# Altium schematic symbol library Gateway.SCHLIB: 44 symbols
Pins are listed as number, name and electrical type; pins without a type are passive.

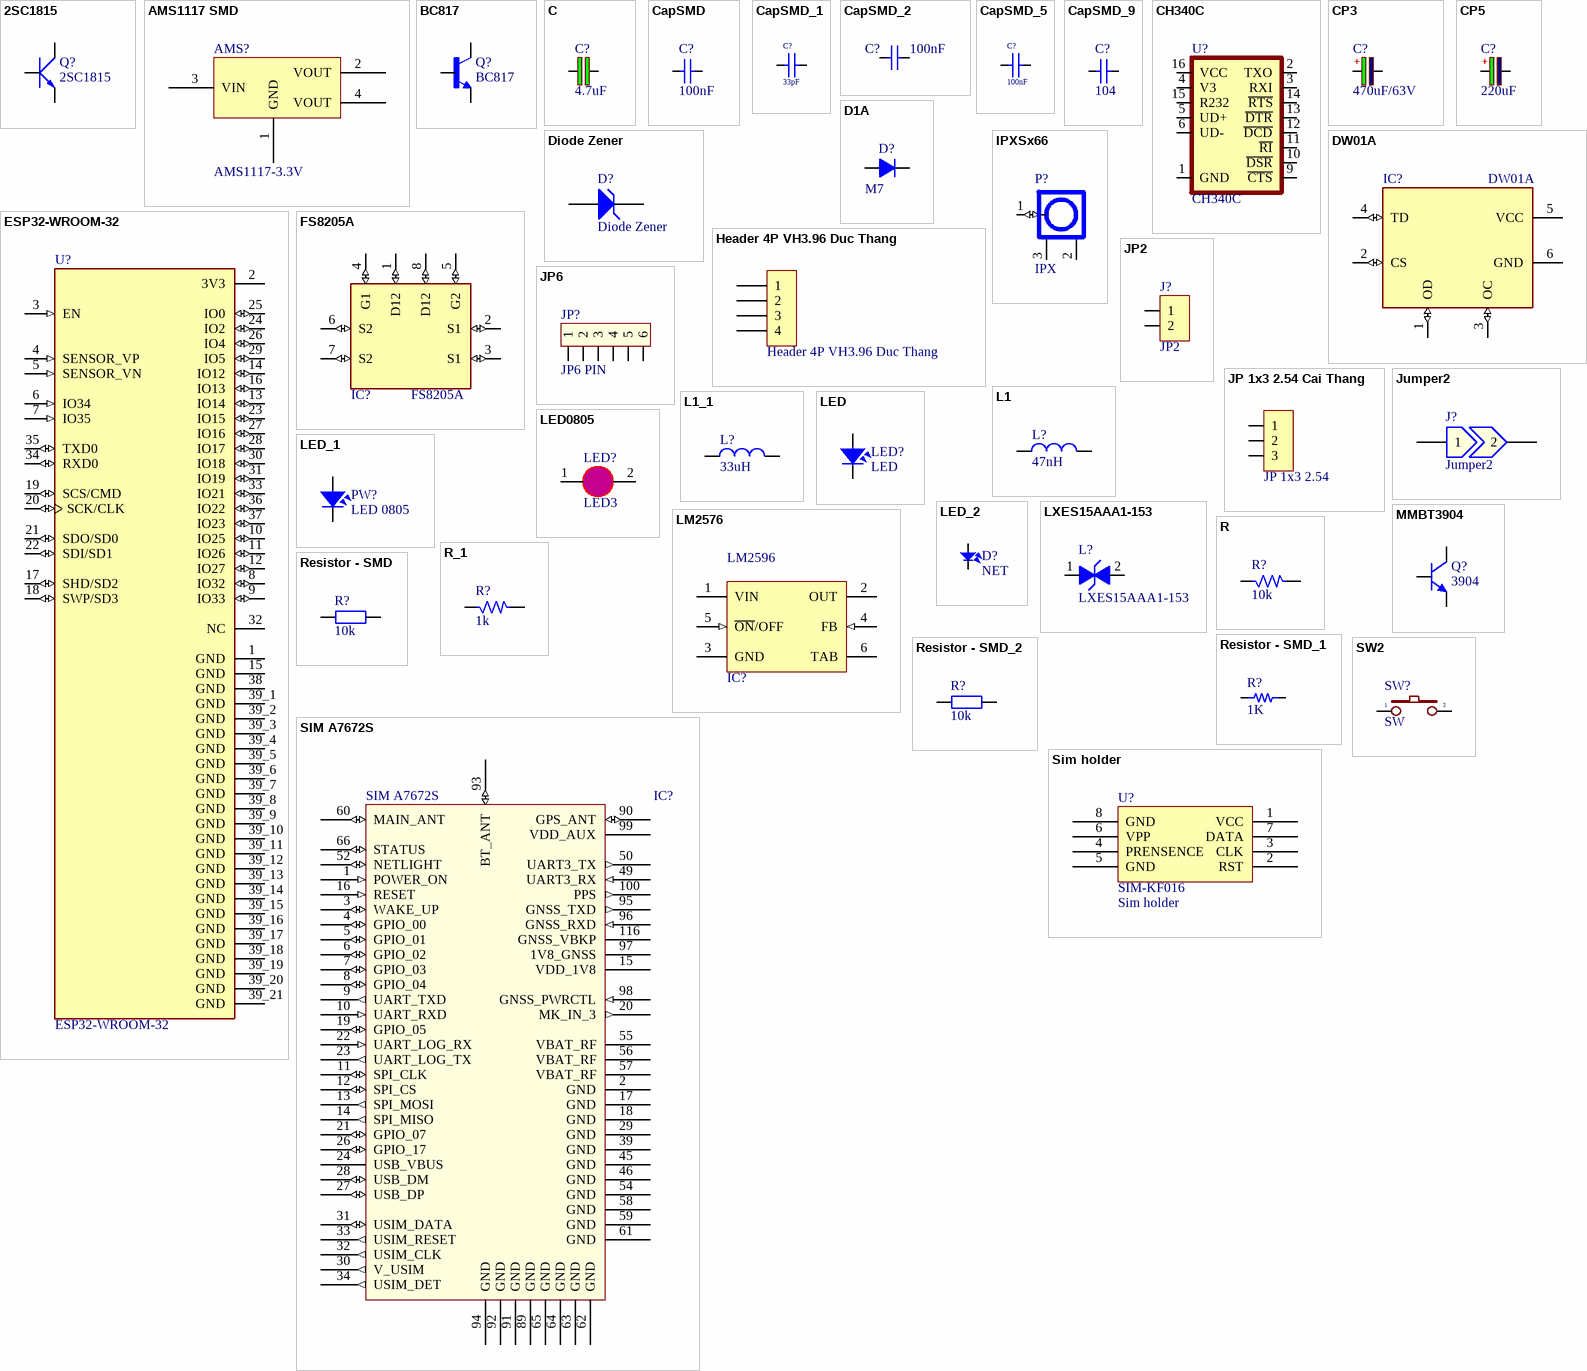
[diagram p0: symbols 2SC1815 to SW2]

## 2SC1815
designator Q?
NPN 600mW, ECB; Value: C1815
footprint TO92-123 (TO-92)
footprint SOT23-321
footprint TO92-123 - 1 (TO-92)
footprint TO92-123 - 2 (TO-92)
footprint TO92-123 - 3 (TO-92)
footprint SOT23 (SOT-23; 3 Leads; Body 3.1 x 2.5 mm, inc. leads (LxW max), Alternate Lead Configuration)
pins: 1 E, 2 C, 3 B

## AMS1117 SMD
designator AMS?, comment AMS1117-3.3V
Dán; Value: AMS1117-3.3V SOT223; Don_Vi: Con; Ma_Hang: MH000596; Ghi_Chu: *; Kieu_Chan: *; Chung_Loai: Dán
footprint SOT223
pins: 1 GND, 2 VOUT, 3 VIN, 4 VOUT

## BC817
designator Q?
Bipolar (BJT) Transistor NPN 45V 500mA 100MHz 250mW Surface Mount TO-236AB; MF: Rectron; MP: BC817; Value: *; SnapEDA_Link: https://www.snapeda.com/parts/BC817/Rectron/view-part/?ref=snap; Availability: In Stock; Purchase-URL: https://pricing.snapeda.com/search/part/BC817/?ref=eda; Package: SOT-23-3 Rectron; Price: None; Check_prices: https://www.snapeda.com/parts/BC817/Rectron/view-part/?ref=eda
footprint SOT95P230X110-3N
footprint SOT95P240X97-3N
pins: 1 B, 2 E, 3 C

## C
designator C?, comment 4.7uF
4.7µF ±10% 35V Ceramic Capacitor X5R 0805 (2012 Metric); Manufacturer: Samsung Electro-Mechanics; Part number: CL21A475KLCLQNC; User_Description: CAP CER 4.7UF 35V X5R 0805; Value: 4.7uF; Category: CAPACITOR; Package: 0805
footprint C-0805 (Compoment SMD 80x50mil)
pins: 1, 2

## CapSMD
designator C?, comment 100nF
Capacitor; Value: 33p; Published: 8-Jun-2000; LatestRevisionDate: 17-Jul-2002; LatestRevisionNote: Re-released for DXP Platform.; PackageReference: RAD-0.3; Publisher: Altium Limited
footprint CAP_0402
footprint CAP_0603
footprint CAP_0805
footprint CAP_1206
footprint CAP_3216
footprint CAP_0805
pins: 1, 2

## CapSMD_1
designator C?, comment 33pF
Capacitor; Value: 33p; Published: 8-Jun-2000; LatestRevisionDate: 17-Jul-2002; LatestRevisionNote: Re-released for DXP Platform.; PackageReference: RAD-0.3; Publisher: Altium Limited
footprint CAP_0402
footprint CAP_0603
footprint CAP_0805
footprint CAP_1206
footprint CAP_3216
footprint CAP_0805
pins: 1, 2

## CapSMD_2
designator C?, comment 100nF
Capacitor; Value: 33p; Published: 8-Jun-2000; LatestRevisionDate: 17-Jul-2002; LatestRevisionNote: Re-released for DXP Platform.; PackageReference: RAD-0.3; Publisher: Altium Limited
footprint CAP_0402
footprint CAP_0603
footprint CAP_0805
footprint CAP_1206
footprint CAP_3216
pins: 1, 2

## CapSMD_5
designator C?, comment 100nF
Capacitor; Value: 33p; Published: 8-Jun-2000; LatestRevisionDate: 17-Jul-2002; LatestRevisionNote: Re-released for DXP Platform.; PackageReference: RAD-0.3; Publisher: Altium Limited
footprint CAP_0402
footprint CAP_0603
footprint CAP_0805
footprint CAP_1206
footprint CAP_3216
footprint CAP_0805
pins: 1, 2

## CapSMD_9
designator C?, comment 104
Capacitor; Value: 33p; Published: 8-Jun-2000; LatestRevisionDate: 17-Jul-2002; LatestRevisionNote: Re-released for DXP Platform.; PackageReference: RAD-0.3; Publisher: Altium Limited
footprint CAP_0402
footprint CAP_0603
footprint CAP_0805
footprint CAP_1206
footprint CAP_3216
pins: 1, 2

## CH340C
designator U?
USB to serial chip CH340; MF: WCH; Package: Package; Check_prices: https://www.snapeda.com/parts/CH340C/WCH/view-part/5428851/?ref=eda; Value: *; Price: None; MP: CH340C; Availability: Unavailable; SnapEDA_Link: https://www.snapeda.com/parts/CH340C/WCH/view-part/5428851/?ref=snap
footprint SOP-16
pins: 1 GND (io), 2 TXO (io), 3 RXI (io), 4 V3 (io), 5 UD+ (io), 6 UD- (io), 9 ~{CTS} (io), 10 ~{DSR} (io), 11 ~{RI} (io), 12 ~{DCD} (io), 13 ~{DTR} (io), 14 ~{RTS} (io), 15 R232 (io), 16 VCC (io)

## CP3
designator C?, comment 470uF/63V
Cap 470uF/63V; Value: Cap 470uF/63V
footprint CP_1000uF_25V
footprint CAP-ALU-SMD-C
pins: 1, 2
text: +

## CP5
designator C?, comment 220uF
220µF Molded Tantalum Polymer Capacitor 16V 2917 (7343 Metric) 40mOhm @ 100kHz; Manufacturer: AVX Corporation; Part number: TCME227M016R0040E; User_Description: CAP TANT POLY 220UF 16V 2917; Value: 220uF; Category: CAPACITOR; Package: 2917
footprint EEFSDE
footprint CAP_TANTALUM_3216
pins: 1, 2
text: +

## D1A
designator D?, comment M7
Diode 1A; Value: 1N4007
footprint SMA11 (SMAJ5.0A/CA,SMAJ24CA...)
footprint LED-0805-Blue
footprint SMA
footprint DIO-214AC(SMA) (DO-214AC Diode Smallest Size)
pins: 1 A, 2 K

## Diode Zener
designator D?
Zener Diode; Published: 8-Jun-2000; LatestRevisionDate: 17-Jul-2002; LatestRevisionNote: Re-released for DXP Platform.; PackageReference: DIODE-0.7; Publisher: Altium Limited
footprint DIODE/NOM/0.5A
footprint DIODE_ZENER_SMD
pins: 1 A, 2 K

## DW01A
designator IC?
One Cell Lithium-ion/Polymer Battery Protection IC
footprint SOT23-6 (SOT23, 5-Leads, Body 3.0x3.0mm (max), Pitch 0.95mm, IPC Medium Density)
pins: 1 OD (io), 2 CS (io), 3 OC (io), 4 TD (io), 5 VCC (power), 6 GND (power)

## ESP32-WROOM-32
designator U?
Bluetooth, WiFi 802.11b/g/n, Bluetooth v4.2 +EDR, Class 1, 2 and 3 Transceiver Module 2.4GHz ~ 2.5GHz Antenna Not Included, U.FL Surface Mount; MF: Espressif Systems; Price: None; Availability: In Stock; MP: ESP32-WROOM-32; Package: Module Espressif Systems; SnapEDA_Link: https://www.snapeda.com/parts/ESP32-WROOM-32/Espressif+Systems/view-part/?ref=snap; Check_prices: https://www.snapeda.com/parts/ESP32-WROOM-32/Espressif+Systems/view-part/?ref=eda; Value: *; Purchase-URL: https://pricing.snapeda.com/search/part/ESP32-WROOM-32/?ref=eda
footprint MODULE_ESP32-WROOM-32
footprint MODULE_ESP32-WROOM-32
pins: 1 GND (power), 2 3V3 (power), 3 EN (in), 4 SENSOR_VP (in), 5 SENSOR_VN (in), 6 IO34 (in), 7 IO35 (in), 8 IO32 (io), 9 IO33 (io), 10 IO25 (io), 11 IO26 (io), 12 IO27 (io), 13 IO14 (io), 14 IO12 (io), 15 GND (power), 16 IO13 (io), 17 SHD/SD2 (io), 18 SWP/SD3 (io), 19 SCS/CMD (io), 20 SCK/CLK (io), 21 SDO/SD0 (io), 22 SDI/SD1 (io), 23 IO15 (io), 24 IO2 (io), 25 IO0 (io), 26 IO4 (io), 27 IO16 (io), 28 IO17 (io), 29 IO5 (io), 30 IO18 (io), 31 IO19 (io), 32 NC, 33 IO21 (io), 34 RXD0 (io), 35 TXD0 (io), 36 IO22 (io), 37 IO23 (io), 38 GND (power), 39_1 GND (power), 39_2 GND (power), 39_3 GND (power), 39_4 GND (power), 39_5 GND (power), 39_6 GND (power), 39_7 GND (power), 39_8 GND (power), 39_9 GND (power), 39_10 GND (power), 39_11 GND (power), 39_12 GND (power), 39_13 GND (power), 39_14 GND (power), 39_15 GND (power), 39_16 GND (power), 39_17 GND (power), 39_18 GND (power), 39_19 GND (power), 39_20 GND (power), 39_21 GND (power)

## FS8205A
designator IC?
footprint FS8205A
pins: 1 D12 (io), 2 S1 (io), 3 S1 (io), 4 G1 (io), 5 G2 (io), 6 S2 (io), 7 S2 (io), 8 D12 (io)

## Header 4P VH3.96 Duc Thang
designator H?
Cắm; Ten_Linh_Kien: Header 4P XH2.54-4P Đực Thẳng; Don_Vi: Con; Ma_Hang: MH001285; Chung_Loai: Cắm
footprint VH3.96M-4
footprint CON4
pins: 1, 2, 3, 4

## IPXSx66
designator P?, comment IPX
Antenna GSM GPS; Manufacturer: TE Connectivity AMP Connectors; Part number: 2334884-1; User_Description: UMCC MICRO-COAX RECEPTACLE, GEN; Category: Connectors; Package: SMD
footprint IPXS (SOT 23 _ 1-3-2)
pins: 1 (io), 2, 3

## JP2
designator J?
WR-PHD 2.54 mm Angled Socket Header; Manufacturer: W¨¹rth Elektronik eiSos GmbH; partNo: 613002143121; ComponentLink1 Description: Manufacturer; ComponentLink2 Description: Datasheet; NoPins: 02; Created Date: 29 March 2013; ComponentLink1URL: http://www.we-online.com; ComponentLink2URL: http://katalog.we-online.de/em/datasheet/6130xx143121.pdf; Created by: Karrer Zheng
footprint JP2-C1T (2 row, straight, gold plating)
footprint JP2-CLOSED
footprint JP2-C1C (02p 1 row Right angle)
footprint JP2-D1C (2 pins, 1 row, right angled, gold plating)
footprint JP2-D1T (2 pins, 1 row, straight, gold plating)
footprint KF2-5.08
pins: 1, 2

## JP6
designator JP?, comment JP6 PIN
Value: JP7
footprint JP6
footprint JP6H
footprint Header6 (CON6)
pins: 1, 2, 3, 4, 5, 6

## JP 1x3 2.54 Cai Thang
designator JP?, comment JP 1x3 2.54
Cắm; Ten_Linh_Kien: Jump Đơn Cái 2.54MM 1x20P Thẳng; Don_Vi: Con; Ma_Hang: MH004006; Ghi_Chu: *; Kieu_Chan: *; Chung_Loai: Cắm
footprint JP 1x3 CT
footprint JP3 (Jumper 3)
pins: 1, 2, 3

## Jumper2
designator J?
Jumper, 2-Pin
footprint RES-SMD-0201
footprint RES-SMD-0402
footprint JUMPER2
pins: 1, 2

## L1
designator L?, comment 47nH
22µH Shielded Inductor 1.65A 96mOhm Max Nonstandard; Manufacturer: Bourns Inc.; Part Number: SRR0745A-220M; Value: 220uH; User_Description: FIXED IND 22UH 1.65A 96 MOHM SMD; Category: INDUCTORS; Package: SMD
footprint XL-cd74
footprint Inductor_SMD
footprint L-0805 (Compoment SMD 80x50mil)
pins: 1, 2

## L1_1
designator L?, comment 33uH
22µH Shielded Inductor 1.65A 96mOhm Max Nonstandard; Manufacturer: Bourns Inc.; Part Number: SRR0745A-220M; Value: 220uH; User_Description: FIXED IND 22UH 1.65A 96 MOHM SMD; Category: INDUCTORS; Package: SMD
footprint XL-cd74
footprint Inductor_SMD
pins: 1, 2

## LED
designator LED?
LED Single colour Green and Red; Value: LED 3 ly Single Colour
footprint LED-3 (LED 2 PIN, 3ly Only colour)
footprint LED-5 GRe (LED 2 PIN, 5 ly , Only colour,pin to pin 100mil)
footprint LED-5TRED (LED 2 PIN, 5 ly , Only colour, pin to pin 110mil)
footprint LED-0805-Blue
footprint LED-0805-Green
footprint LED-0805-Orange
footprint LED-0805-Red
footprint LED-0805-Yellow
footprint LED-1206-Blue (Compoment SMD 120x60mil)
footprint LED-1206-Green
footprint LED-1206-Orange
footprint LED-1206-Red
footprint LED-1206-Yellow
pins: 1, 2

## LED0805
designator LED?, comment LED3
LED SMD 0805
footprint LED0805 (Chip Resistor; Body 2.0 x 1.3 mm (LxW typ))
pins: 1 A, 2 K

## LED_1
designator PW?, comment LED 0805
LED RED DIFFUSED 0805 SMD; Manufacturer: OSRAM Opto Semiconductors Inc.; Part number: LS R976-NR-1; Value: Red; Category: LED SMD; Package: 0805; User_Description: LED RED DIFFUSED 0805 SMD
footprint LED-0805
footprint LED-0805-Blue
pins: 1, 2

## LED_2
designator D?, comment NET
LED Single colour Green and Red; Value: LED 3 ly Single Colour
footprint LED-3 (LED 2 PIN, 3ly Only colour)
footprint LED-5 GRe (LED 2 PIN, 5 ly , Only colour,pin to pin 100mil)
footprint LED-5TRED (LED 2 PIN, 5 ly , Only colour, pin to pin 110mil)
footprint LED-0805-Blue
footprint LED-0805-Green
footprint LED-0805-Orange
footprint LED-0805-Red
footprint LED-0805-Yellow
footprint LED-1206-Blue (Compoment SMD 120x60mil)
footprint LED-1206-Green
footprint LED-1206-Orange
footprint LED-1206-Red
footprint LED-1206-Yellow
footprint LED-0603-Red
footprint LED-0603-Green
footprint LED-3 (LED 2 PIN, 3ly Only colour)
footprint LED-0805-Blue
pins: 1, 2

## LM2576
designator IC?, comment LM2596
LM2576
footprint TS5B_N
footprint TO-263
footprint QTO-220-5-1 (TO, Thru-Hole, Vertical, Heatsink Mounted; 5 Bent Staggered Leads; Pitch 1.7mm)
footprint QTO-220-5-1N (TO, Thru-Hole, Horizontal, Heatsink Mounted; 5 Bent Staggered Leads; Pitch 1.7 mm)
footprint QTO-220-5-1H1 (TO, Thru-Hole, Vertical, Heatsink Mounted; 5 Bent Staggered Leads; Pitch 1.7mm)
footprint QTO-220-5-1H2 (TO, Thru-Hole, Vertical, Heatsink Mounted; 5 Bent Staggered Leads; Pitch 1.7mm)
footprint TO-263
footprint TO-263
pins: 1 VIN (power), 2 OUT (power), 3 GND (power), 4 FB (in), 5 ~{ON}/OFF (in), 6 TAB (power)

## LXES15AAA1-153
designator L?
Clamp Ipp Tvs Diode Surface Mount 1005; MF: Murata; SnapEDA_Link: https://www.snapeda.com/parts/LXES15AAA1-153/Murata%20Electronics%20North%20America/view-part/653473/?ref=snap; MP: LXES15AAA1-153; Value: *; Digi-Key_Part_Number: 490-13210-1-ND; Digi-Key_Purchase_URL: https://www.digikey.kr/product-detail/en/murata-electronics/LXES15AAA1-153/490-13210-1-ND/5843764?utm_source=snapeda&utm_medium=aggregator&utm_campaign=symbol; Package: 0402 Murata
footprint INDC1005X45
pins: 1, 2

## MMBT3904
designator Q?, comment 3904
footprint MMBT3904
footprint TRAN-LOWPOWER (TO, Flat Index; 3 In-Line, Axial Leads; Body Dia. 4.5mm; Leads 0.51 x 0.48 mm (max))
footprint SOT23 (SOT-23; 3 Leads; Body 3.1 x 2.5 mm, inc. leads (LxW max), Alternate Lead Configuration)
pins: 1 B, 2 E, 3 C

## R
designator R?, comment 10k
Resistor 1/4W; Value: R1/4W - 1K
footprint SM-1206 (Compoment SMD 120x60mil)
footprint R1/8W (R 1/8W, 2 pin, 300mil)
footprint R1/4W (R 1/4W, 2 Pin, 350mil)
footprint R1/4WD (R 1/4W, 2 Pin, 150mil)
footprint AXIAL-0.5 (Resistor 500mil)
footprint RES-SMD-0805
pins: 1, 2

## R_1
designator R?, comment 1k
Resistor 1/4W; Manufacturer: Yageo; Part number: RC0805FR-071KL; User_Description: RES SMD 1K OHM 1% 1/8W 0805; Value: 1k; Category: RESISTORS; Package: 0805
footprint R-0805 (Compoment SMD 80x50mil)
pins: 1, 2

## Resistor - SMD
designator R?, comment 10k
Resistor SMD; Manufacturer: Generic Components; Class: Passive; Published: 08/06/2000; Publisher: Altium Hobart Technology Centre
footprint RES-SMD-0101
footprint RES-SMD-0201
footprint RES-SMD-0603
footprint RES-SMD-0805
footprint RES-SMD-1206
footprint RES-SMD-1210 (Chip Capacitor, Body 3.2x2.5mm, IPC Medium Density)
footprint RES-SMD-1812 (Chip Capacitor, Body 3.2x2.5mm, IPC Medium Density)
footprint RES-SMD-2010 (Chip Capacitor, Body 3.2x2.5mm, IPC Medium Density)
footprint RES-SMD-2512 (Chip Capacitor, Body 3.2x2.5mm, IPC Medium Density)
footprint RES-SMD-0402
footprint RES-SMD-0805
pins: 1, 2

## Resistor - SMD_1
designator R?, comment 1K
Resistor; Manufacturer: Generic Components; Class: Passive; Published: 08/06/2000; Publisher: Altium Hobart Technology Centre
footprint RES-SMD-0101
footprint RES-SMD-0201
footprint RES-SMD-0603
footprint RES-SMD-0805
footprint RES-SMD-1206
footprint RES-SMD-1210 (Chip Capacitor, Body 3.2x2.5mm, IPC Medium Density)
footprint RES-SMD-1812 (Chip Capacitor, Body 3.2x2.5mm, IPC Medium Density)
footprint RES-SMD-2010 (Chip Capacitor, Body 3.2x2.5mm, IPC Medium Density)
footprint RES-SMD-2512 (Chip Capacitor, Body 3.2x2.5mm, IPC Medium Density)
footprint RES-SMD-0402
footprint RES-SMD-0805
pins: 1, 2

## Resistor - SMD_2
designator R?, comment 10k
Resistor SMD; Manufacturer: Generic Components; Class: Passive; Published: 08/06/2000; Publisher: Altium Hobart Technology Centre
footprint RES-SMD-0101
footprint RES-SMD-0201
footprint RES-SMD-0603
footprint RES-SMD-0805
footprint RES-SMD-1206
footprint RES-SMD-1210 (Chip Capacitor, Body 3.2x2.5mm, IPC Medium Density)
footprint RES-SMD-1812 (Chip Capacitor, Body 3.2x2.5mm, IPC Medium Density)
footprint RES-SMD-2010 (Chip Capacitor, Body 3.2x2.5mm, IPC Medium Density)
footprint RES-SMD-2512 (Chip Capacitor, Body 3.2x2.5mm, IPC Medium Density)
footprint RES-SMD-0402
pins: 1, 2

## SIM A7672S
designator IC?
SIM A7672S-CAT-M1; Part number: SIM A7672S
footprint SIM A7672S
footprint A7672S (SIMCOM A7672S)
pins: 1 POWER_ON (in), 2 GND, 3 WAKE_UP (io), 4 GPIO_00 (io), 5 GPIO_01 (io), 6 GPIO_02 (io), 7 GPIO_03 (io), 8 GPIO_04 (io), 9 UART_TXD (out), 10 UART_RXD (in), 11 SPI_CLK (io), 12 SPI_CS (io), 13 SPI_MOSI (out), 14 SPI_MISO (out), 15 RESERVED hidden, 15 VDD_1V8, 16 RESERVED hidden, 16 RESET (in), 17 GND, 18 GND, 19 GPIO_05 (io), 20 MK_IN_3 (out), 21 SPK_M hidden, 21 GPIO_07 (io), 22 SPK_P hidden, 22 UART_LOG_RX (in), 23 MIC1P hidden, 23 UART_LOG_TX (out), 24 MIC1N hidden, 24 USB_VBUS, 25 EAR1N hidden, 26 EAR1P hidden, 26 GPIO_17 (io), 27 KEYSENSE_N1 hidden, 27 USB_DP (io), 28 KEYSENSE_N0 hidden, 28 USB_DM (io), 29 KEYPAD_0 hidden, 29 GND, 30 KEYPAD_2 hidden, 30 V_USIM (out), 31 KEYSENSE_N2 hidden, 31 USIM_DATA (io), 32 KEYSENSE_N3 hidden, 32 USIM_CLK (out), 33 KEYPAD_1 hidden, 33 USIM_RESET (out), 34 KEYPAD_4 hidden, 34 USIM_DET (out), 35 KEYPAD_3 hidden, 36 KEYSENSE_N4 hidden, 39 GND, 45 GND, 46 ADC2 hidden, 46 GND, 47 ADC1 hidden, 48 GPIO44 hidden, 49 GPIO40 hidden, 49 UART3_RX (in), 50 GPIO43 hidden, 50 UART3_TX (out), 51 GPIO1 hidden, 52 GPIO41 hidden, 52 NETLIGHT (io), 53 GPIO42 hidden, 54 GPIO4 hidden, 54 GND, 55 VBAT_RF, 56 VBAT_RF, 57 VBAT_RF, 58 GND, 59 GND, 60 MAIN_ANT (io), 61 GND, 62 GND, 63 GND, 64 GND, 65 GND, 66 STATUS (io), 73 PCM_DOUT hidden, 74 PCM_DIN hidden, 75 PCM_SYNC hidden, 76 PCM_CLK hidden, 89 GND, 90 GPS_ANT (io), 91 GND, 92 GND, 93 BT_ANT (io), 94 GND, 95 GNSS_TXD (out), 96 GNSS_RXD (in), 97 1V8_GNSS, 98 GNSS_PWRCTL (in), 99 VDD_AUX, 100 PPS (out), 116 GNSS_VBKP

## Sim holder
designator U?, comment SIM-KF016  value Sim holder
SIM Card Holder KF-016
footprint SIM_HOLDER
footprint Sim Socket (Socket Micro Sim 6P Push)
footprint SIM_MicroSIM 6P Flip
pins: 1 VCC, 2 RST, 3 CLK, 4 PRENSENCE, 5 GND, 6 VPP, 7 DATA, 8 GND

## SW2
designator SW?, comment SW
Switch button 2 pin; Value: SW chip 2 pin
footprint SW2 (SW button 2pin, 250x 250 mil)
footprint SW-SMD (Switch SMD type)
pins: 1, 2

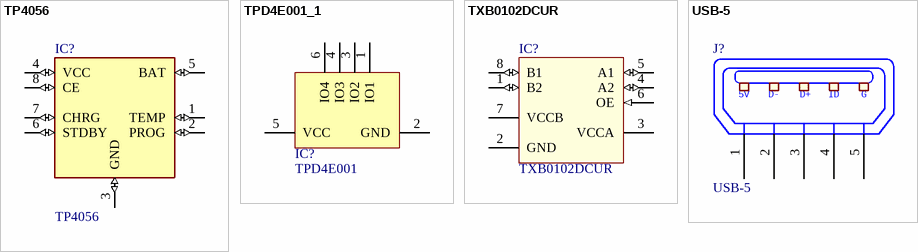
[diagram p1: symbols TP4056 to USB-5]

## TP4056
designator IC?
Complete single cell Li-Ion battery with a constant current / constant voltage linear charger
footprint TP4056
pins: 1 TEMP (io), 2 PROG (io), 3 GND (io), 4 VCC (io), 5 BAT (io), 6 STDBY (io), 7 CHRG (io), 8 CE (io)

## TPD4E001_1
designator IC?, comment TPD4E001
Manufacturer: Texas Instruments; Part number: TPD4E001RDBVR; User_Description: TVS DIODE 5.5VWM SC70-6; Category: Circuit Protection; Package: SOT-363
footprint TPD4E001 (Small Outline; 8 Leads; Body Width 3.9 mm; Pitch 1.27 mm)
footprint SOT23-6 (SOT23, 5-Leads, Body 3.0x3.0mm (max), Pitch 0.95mm, IPC Medium Density)
pins: 1 IO1, 2 GND, 3 IO2, 4 IO3, 5 VCC, 6 IO4

## TXB0102DCUR
designator IC?
IC TRNSLTR BIDIRECTIONAL US8; Manufacturer: Texas Instruments; Category: IC Logic Level; Package: 8-VSSOP; Part number: TXB0102DCUR; User_Description: IC TRNSLTR BIDIRECTIONAL US8
footprint TXB0102DCUR (Small Outline; 8 Leads; Body Width 3.9 mm; Pitch 1.27 mm)
footprint SOP50P310X90-8N
pins: 1 B2 (io), 2 GND (power), 3 VCCA (power), 4 A2 (io), 5 A1 (io), 6 OE (in), 7 VCCB (power), 8 B1 (io)

## USB-5
designator J?
Manufacturer: FCI; Manufacturer Part Number: 10118193-0001LF; Connector Type: USB - micro B; Number of Contacts: 5; Gender: Receptacle; Specifications: USB 2.0; .Creator: MM; .Checked PCB: RF; Supplier 1: Digi-Key; RoHS: RoHS Compliant; Category: Connectors, Interconnects; Stock 1: 28642; Pricing 1: 1=0.46, 10=0.433, 25=0.3712, 50=0.3156, 100=0.3032, 250=0.27224, 500=0.25988 (USD); Packaging: Cut Tape (CT); Mounting Type: Surface Mount, Right Angle, Horizontal; Features: Shielded, Solder Retention; Ingress Protection: -; ComponentLink1URL: http://portal.fciconnect.com/Comergent//fci/drawing/10118193.pdf; ComponentLink1Description: http://portal.fciconnect.com/Comergent//fci/drawing/10118193.pdf; Supplier Part Number 1: 609-4616-1-ND; .Checked SCH: MM
footprint USB-M1
footprint USB-M2
footprint USB-M3
footprint USB-M4
footprint USB-M5
footprint USB-M6 (MOLEX 51387-0571)
footprint USB-M7
pins: 1 P1, 2 P2, 3 P3, 4 P4, 5 P5
text: 5V; D-; D+; ID; G